# Altium footprint library LTR303ALS01.PcbLib: 1 footprints
Each footprint in its own frame and in the unit in brackets; x right, y up, seen from the top. Pads: shape width x height; smd on the part's side, far side on the other; paste and mask are expansions set on the pad; w line width, h text height; cw(c..) or ccw(c..) is an arc to the next point about the centre after c.
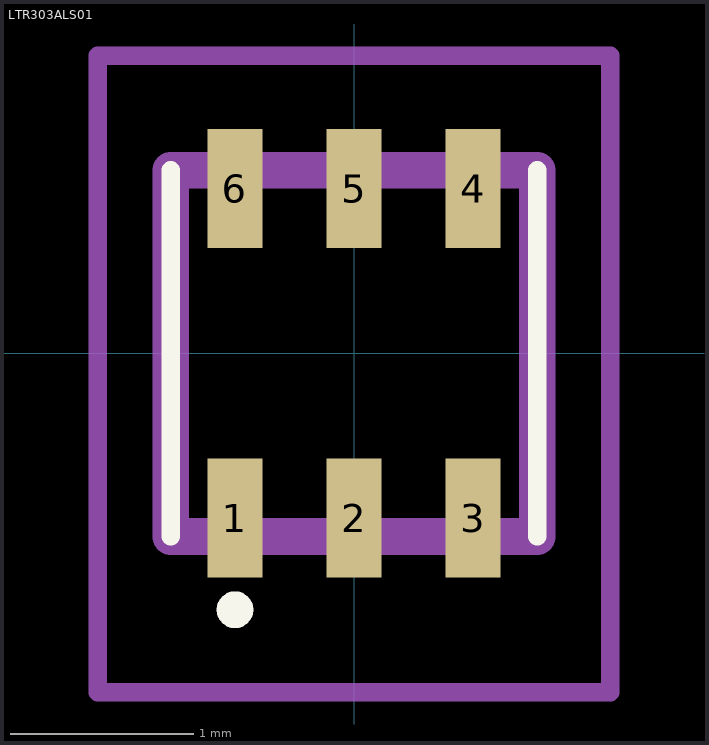
[diagram p0: the footprint, top view; thin cyan lines are the x and y axes]

## LTR303ALS01 [mm]
pads (6):
  rect 0.3x0.65 smd: 1(-0.65,-0.9) 2(0,-0.9) 3(0.65,-0.9) 4(0.65,0.9) 5(0,0.9) 6(-0.65,0.9)
Top Overlay:
  lines w0.1: -1,-1 -1,1 ; 1,-1 1,1 ; -0.7,-1.4 -0.7,-1.4 ; -0.7,-1.4 cw(c-0.65,-1.4) -0.6,-1.4 ; -0.7,-1.4 ccw(c-0.65,-1.4) -0.6,-1.4 ; -0.6,-1.4 -0.6,-1.4
Mechanical 15:
  lines w0.2: -1,-1 1,-1 1,1 -1,1 -1,-1
Mechanical 20:
  lines w0.1: -1.4,-1.85 1.4,-1.85 1.4,1.625 -1.4,1.625 -1.4,-1.85
3D body "LTR-303ALS-01.stp": height 5.8, standoff -4.65, extent -10,-3.376 10,3.376